# Altium footprint library Package_TO_SOT_SMD.PcbLib: 132 footprints (part 5 of 9)
Each footprint in its own frame and in the unit in brackets; x right, y up, seen from the top. Pads: shape width x height; smd on the part's side, far side on the other; paste and mask are expansions set on the pad; w line width, h text height; cw(c..) or ccw(c..) is an arc to the next point about the centre after c.
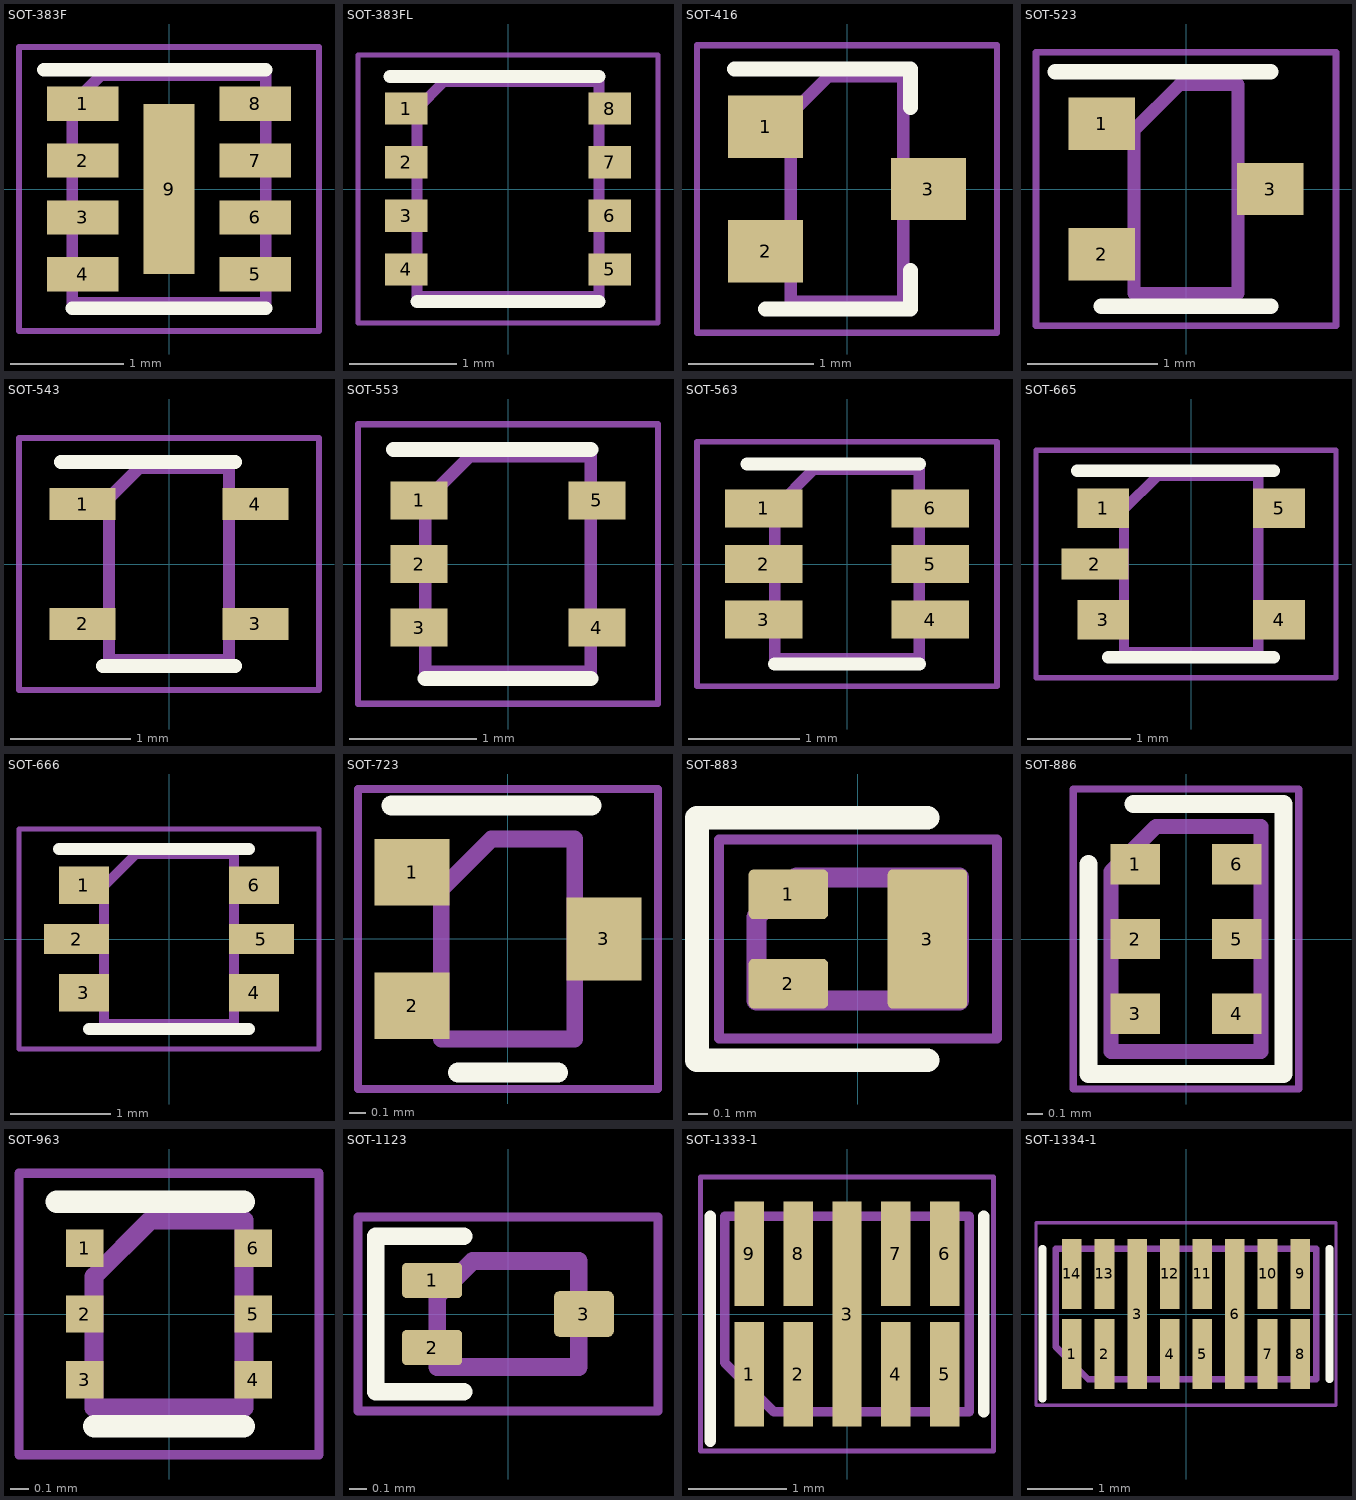
[diagram p4: the footprints below, top view; thin cyan lines are the x and y axes]

## SOT-383F [mm]
pads (9):
  rect 0.63x0.3 smd: 1(-0.76,0.75) 2(-0.76,0.25) 3(-0.76,-0.25) 4(-0.76,-0.75) 5(0.76,-0.75) 6(0.76,-0.25) 7(0.76,0.25) 8(0.76,0.75)
  rect 0.45x1.5 smd: 9(0,0)
F.SilkS:
  lines w0.12: -1.1,1.05 0.85,1.05 ; -0.85,-1.05 0.85,-1.05
F.CrtYd:
  lines w0.05: -1.32,-1.25 -1.32,1.25 1.32,1.25 1.32,-1.25 -1.32,-1.25
F.Fab:
  lines w0.1: -0.85,-1 -0.85,0.75 -0.6,1 0.85,1 0.85,-1 -0.85,-1
  text "'.Designator'" at 0.42,-2.023 h0.5

## SOT-383FL [mm]
pads (8):
  rect 0.4x0.3 smd: 1(-0.95,0.75) 2(-0.95,0.25) 3(-0.95,-0.25) 4(-0.95,-0.75) 5(0.95,-0.75) 6(0.95,-0.25) 7(0.95,0.25) 8(0.95,0.75)
F.SilkS:
  lines w0.12: -1.1,1.05 0.85,1.05 ; -0.85,-1.05 0.85,-1.05
F.CrtYd:
  lines w0.05: -1.4,-1.25 -1.4,1.25 1.4,1.25 1.4,-1.25 -1.4,-1.25
F.Fab:
  lines w0.1: -0.85,-1 -0.85,0.75 -0.6,1 0.85,1 0.85,-1 -0.85,-1
  text "'.Designator'" at 0.42,-2.023 h0.5

## SOT-416 [mm]
pads (3):
  rect 0.6x0.5 smd: 1(-0.65,0.5) 2(-0.65,-0.5) 3(0.65,0)
F.SilkS:
  lines w0.12: -0.9,0.96 0.51,0.96 0.51,0.65 ; -0.65,-0.96 0.51,-0.96 0.51,-0.65
F.CrtYd:
  lines w0.05: -1.2,-1.15 1.2,-1.15 1.2,1.15 -1.2,1.15 -1.2,-1.15
F.Fab:
  lines w0.1: -0.45,-0.9 -0.45,0.6 -0.15,0.9 0.45,0.9 0.45,-0.9 -0.45,-0.9
  text "'.Designator'" at 0.292,-1.414 h0.35

## SOT-523 [mm]
pads (3):
  rect 0.51x0.4 smd: 1(-0.645,0.5) 2(-0.645,-0.5) 3(0.645,0)
F.SilkS:
  lines w0.12: -1,0.9 0.65,0.9 ; -0.65,-0.9 0.65,-0.9
F.CrtYd:
  lines w0.05: -1.15,-1.05 1.15,-1.05 1.15,1.05 -1.15,1.05 -1.15,-1.05
F.Fab:
  lines w0.1: -0.4,-0.8 0.4,-0.8 0.4,0.8 -0.05,0.8 -0.4,0.45 -0.4,-0.8
  text "'.Designator'" at 0.339,-1.621 h0.4

## SOT-543 [mm]
pads (4):
  rect 0.55x0.27 smd: 1(-0.72,0.5) 2(-0.72,-0.5) 3(0.72,-0.5) 4(0.72,0.5)
F.SilkS:
  lines w0.12: -0.9,0.85 0.55,0.85 ; -0.55,-0.85 0.55,-0.85
F.CrtYd:
  lines w0.05: -1.25,-1.05 1.25,-1.05 1.25,1.05 -1.25,1.05 -1.25,-1.05
F.Fab:
  lines w0.1: -0.5,-0.8 -0.5,0.55 -0.25,0.8 0.5,0.8 0.5,-0.8 -0.5,-0.8
  text "'.Designator'" at 0.341,-1.624 h0.4

## SOT-553 [mm]
pads (5):
  rect 0.45x0.3 smd: 1(-0.7,0.5) 2(-0.7,0) 3(-0.7,-0.5) 4(0.7,-0.5) 5(0.7,0.5)
F.SilkS:
  lines w0.12: -0.9,0.9 0.65,0.9 ; -0.65,-0.9 0.65,-0.9
F.CrtYd:
  lines w0.05: -1.18,-1.1 1.18,-1.1 1.18,1.1 -1.18,1.1 -1.18,-1.1
F.Fab:
  lines w0.1: -0.65,-0.85 0.65,-0.85 0.65,0.85 -0.3,0.85 -0.65,0.5 -0.65,-0.85
  text "'.Designator'" at 0.339,-1.621 h0.4

## SOT-563 [mm]
pads (6):
  rect 0.7x0.34 smd: 1(-0.75,0.5) 2(-0.75,0) 3(-0.75,-0.5) 4(0.75,-0.5) 5(0.75,0) 6(0.75,0.5)
F.SilkS:
  lines w0.12: -0.9,0.9 0.65,0.9 ; -0.65,-0.9 0.65,-0.9
F.CrtYd:
  lines w0.05: -1.35,-1.1 -1.35,1.1 1.35,1.1 1.35,-1.1 -1.35,-1.1
F.Fab:
  lines w0.1: -0.65,-0.85 -0.65,0.5 -0.3,0.85 0.65,0.85 0.65,-0.85 -0.65,-0.85
  text "'.Designator'" at 0.339,-1.621 h0.4

## SOT-665 [mm]
pads (5):
  rect 0.5x0.38 smd: 1(-0.85,0.54) 3(-0.85,-0.54) 4(0.85,-0.54) 5(0.85,0.54)
  rect 0.65x0.3 smd: 2(-0.93,0)
F.SilkS:
  lines w0.12: -1.1,0.9 0.8,0.9 ; -0.8,-0.9 0.8,-0.9
F.CrtYd:
  lines w0.05: -1.5,-1.1 1.4,-1.1 1.4,1.1 -1.5,1.1 -1.5,-1.1
F.Fab:
  lines w0.1: -0.65,0.51 -0.65,-0.85 0.65,-0.85 0.65,0.85 -0.33,0.85 -0.65,0.53
  text "'.Designator'" at 0.42,-2.023 h0.5

## SOT-666 [mm]
pads (6):
  rect 0.5x0.375 smd: 1(-0.85,0.537) 3(-0.85,-0.537) 4(0.85,-0.537) 6(0.85,0.537)
  rect 0.65x0.3 smd: 2(-0.925,0) 5(0.925,0)
F.SilkS:
  lines w0.12: -1.1,0.9 0.8,0.9 ; -0.8,-0.9 0.8,-0.9
F.CrtYd:
  lines w0.05: -1.5,-1.1 -1.5,1.1 1.5,1.1 1.5,-1.1 -1.5,-1.1
F.Fab:
  lines w0.1: -0.65,-0.85 0.65,-0.85 0.65,0.85 -0.33,0.85 -0.65,0.53 -0.65,-0.85
  text "'.Designator'" at 0.42,-2.023 h0.5

## SOT-723 [mm]
pads (3):
  rect 0.45x0.4 smd: 1(-0.575,0.4) 2(-0.575,-0.4)
  rect 0.45x0.5 smd: 3(0.575,0)
F.SilkS:
  lines w0.12: -0.7,0.8 0.5,0.8 ; -0.3,-0.8 0.3,-0.8
F.CrtYd:
  lines w0.05: -0.9,-0.9 -0.9,0.9 0.9,0.9 0.9,-0.9 -0.9,-0.9
F.Fab:
  lines w0.1: -0.4,-0.6 -0.4,0.3 -0.1,0.6 0.4,0.6 0.4,-0.6 -0.4,-0.6
  text "'.Designator'" at 1.22,-2.023 h0.5

## SOT-883 [mm]
pads (3):
  rrect20% 0.4x0.25 smd: 1(-0.35,0.225) 2(-0.35,-0.225)
  rrect12% 0.4x0.7 smd: 3(0.35,0)
F.SilkS:
  lines w0.12: 0.35,-0.61 -0.81,-0.61 -0.81,0.61 0.35,0.61
F.CrtYd:
  lines w0.05: -0.7,-0.5 0.7,-0.5 0.7,0.5 -0.7,0.5 -0.7,-0.5
F.Fab:
  lines w0.1: -0.51,-0.31 0.51,-0.31 0.51,0.31 -0.31,0.31 -0.51,0.11 -0.51,-0.31
  text "'.Designator'" at -0.809,-0.168 h0.2

## SOT-886 [mm]
pads (6):
  rect 0.33x0.27 smd: 1(-0.34,0.5) 2(-0.34,0) 3(-0.34,-0.5) 4(0.34,-0.5) 5(0.34,0) 6(0.34,0.5)
F.SilkS:
  lines w0.12: -0.65,0.5 -0.65,-0.9 0.65,-0.9 0.65,0.9 -0.35,0.9
F.CrtYd:
  lines w0.05: -0.75,-1 -0.75,1 0.75,1 0.75,-1 -0.75,-1
F.Fab:
  lines w0.1: -0.5,-0.75 -0.5,0.45 -0.2,0.75 0.5,0.75 0.5,-0.75 -0.5,-0.75
  text "'.Designator'" at 0.339,-1.621 h0.4

## SOT-963 [mm]
pads (6):
  rect 0.2x0.2 smd: 1(-0.45,0.35) 2(-0.45,0) 3(-0.45,-0.35) 4(0.45,-0.35) 5(0.45,0) 6(0.45,0.35)
F.SilkS:
  lines w0.12: -0.6,0.6 0.4,0.6 ; -0.4,-0.6 0.4,-0.6
F.CrtYd:
  lines w0.05: -0.8,-0.75 -0.8,0.75 0.8,0.75 0.8,-0.75 -0.8,-0.75
F.Fab:
  lines w0.1: -0.4,-0.5 -0.4,0.2 -0.1,0.5 0.4,0.5 0.4,-0.5 -0.4,-0.5
  text "'.Designator'" at 0.235,-1.037 h0.25

## SOT-1123 [mm]
pads (3):
  rrect25% 0.34x0.2 smd: 1(-0.43,0.19) 2(-0.43,-0.19)
  rrect25% 0.34x0.26 smd: 3(0.43,0)
F.SilkS:
  lines w0.1: -0.25,-0.44 -0.75,-0.44 -0.75,0.44 -0.25,0.44
F.CrtYd:
  lines w0.05: -0.85,-0.55 -0.85,0.55 0.85,0.55 0.85,-0.55 -0.85,-0.55
F.Fab:
  lines w0.1: -0.4,-0.3 -0.4,0.1 -0.2,0.3 0.4,0.3 0.4,-0.3 -0.4,-0.3
  text "'.Designator'" at -0.829,-0.188 h0.2

## SOT-1333-1 [mm]
pads (9):
  rect 0.3x1.07 smd: 1(-1,-0.615) 2(-0.5,-0.615) 4(0.5,-0.615) 5(1,-0.615) 6(1,0.615) 7(0.5,0.615) 8(-0.5,0.615) 9(-1,0.615)
  rect 0.3x2.3 smd: 3(0,0)
F.SilkS:
  lines w0.12: -1.4,-1.3 -1.4,1 ; 1.4,-1 1.4,1
F.CrtYd:
  lines w0.05: -1.5,-1.4 1.5,-1.4 1.5,1.4 -1.5,1.4 -1.5,-1.4
F.Fab:
  lines w0.1: -1.25,-0.5 -0.75,-1 1.25,-1 1.25,1 -1.25,1 -1.25,-0.5
  text "'.Designator'" at -4.047,1.46 h1

## SOT-1334-1 [mm]
pads (14):
  rect 0.3x1.07 smd: 1(-1.75,-0.615) 2(-1.25,-0.615) 4(-0.25,-0.615) 5(0.25,-0.615) 7(1.25,-0.615) 8(1.75,-0.615) 9(1.75,0.615) 10(1.25,0.615) 11(0.25,0.615) 12(-0.25,0.615) 13(-1.25,0.615) 14(-1.75,0.615)
  rect 0.3x2.3 smd: 3(-0.75,0) 6(0.75,0)
F.SilkS:
  lines w0.12: -2.2,-1.3 -2.2,1 ; 2.2,-1 2.2,1
F.CrtYd:
  lines w0.05: -2.3,-1.4 -2.3,1.4 2.3,1.4 2.3,-1.4 -2.3,-1.4
F.Fab:
  lines w0.1: -2,-0.5 -1.5,-1 2,-1 2,1 -2,1 -2,-0.5
  text "'.Designator'" at -4.047,1.26 h1